# Altium footprint library SnapEDApcb.PcbLib: 1 footprints
Each footprint in its own frame and in the unit in brackets; x right, y up, seen from the top. Pads: shape width x height; smd on the part's side, far side on the other; paste and mask are expansions set on the pad; w line width, h text height; cw(c..) or ccw(c..) is an arc to the next point about the centre after c.
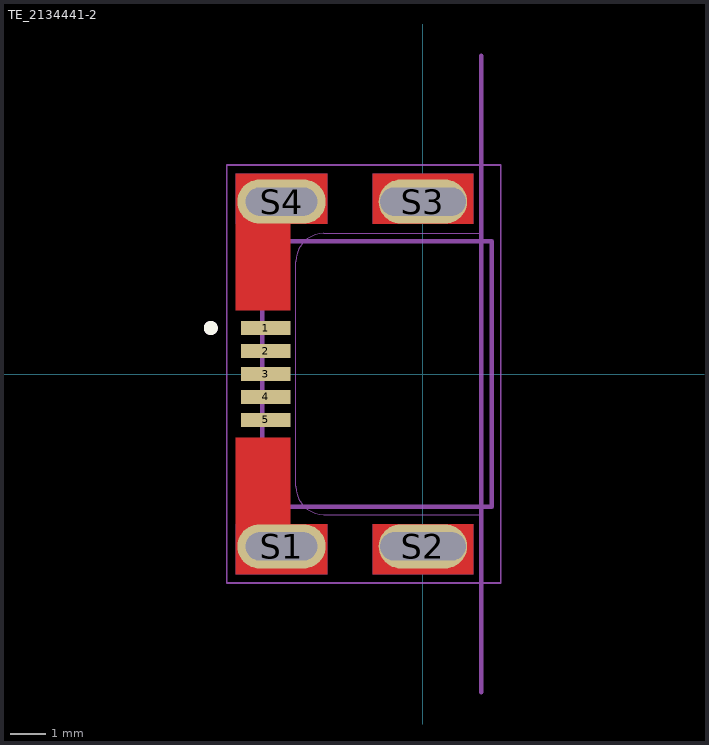
[diagram p0: the footprint, top view; thin cyan lines are the x and y axes]

## TE_2134441-2 [mm]
pads (9):
  rect 1.4x0.4 smd: 1(-4.45,1.3) 2(-4.45,0.65) 3(-4.45,0) 4(-4.45,-0.65) 5(-4.45,-1.3)
  oval 2.5x1.25 hole 0.8 slot 2.02 at 0 deg: S1(-4,-4.875) S4(-4,4.875)
  oval 2.5x1.25 hole 0.8 slot 2.42 at 0 deg: S2(0,-4.875) S3(0,4.875)
Top Layer:
  region: -2.7,4.25 -3.75,4.25 -3.75,1.8 -5.3,1.8 -5.3,5.66 -2.7,5.66
  region: 1.425,4.25 -1.425,4.25 -1.425,5.66 1.425,5.66
  region: 1.425,-5.66 -1.425,-5.66 -1.425,-4.25 1.425,-4.25
  region: -3.75,-4.25 -2.7,-4.25 -2.7,-5.66 -5.3,-5.66 -5.3,-1.8 -3.75,-1.8
Bottom Layer:
  region: -2.7,4.25 -5.3,4.25 -5.3,5.66 -2.7,5.66
  region: 1.425,4.25 -1.425,4.25 -1.425,5.66 1.425,5.66
  region: 1.425,-5.66 -1.425,-5.66 -1.425,-4.25 1.425,-4.25
  region: -2.7,-5.66 -5.3,-5.66 -5.3,-4.25 -2.7,-4.25
Top Overlay:
  circle w0.2: c-6,1.3 r0.1
Top Solder:
  region: -2.6,4.15 -3.65,4.15 -3.65,1.7 -5.4,1.7 -5.4,5.76 -2.6,5.76
  region: 1.525,4.15 -1.525,4.15 -1.525,5.76 1.525,5.76
  region: 1.525,-5.76 -1.525,-5.76 -1.525,-4.15 1.525,-4.15
  region: -3.65,-4.15 -2.6,-4.15 -2.6,-5.76 -5.4,-5.76 -5.4,-1.7 -3.65,-1.7
Bottom Solder:
  region: -2.6,4.15 -5.4,4.15 -5.4,5.76 -2.6,5.76
  region: 1.525,4.15 -1.525,4.15 -1.525,5.76 1.525,5.76
  region: 1.525,-5.76 -1.525,-5.76 -1.525,-4.15 1.525,-4.15
  region: -2.6,-5.76 -5.4,-5.76 -5.4,-4.15 -2.6,-4.15
Mechanical 1:
  lines w0: -5.01,-4.975 -5.01,-4.775 ; -5.01,4.775 -5.01,4.975 ; -2.99,-4.975 -2.99,-4.775 ; -2.99,4.775 -2.99,4.975 ; -1.21,-4.975 -1.21,-4.775 ; -1.21,4.775 -1.21,4.975 ; 1.21,-4.975 1.21,-4.775 ; 1.21,4.775 1.21,4.975 ; 1.65,-3.975 -2.8,-3.975 cw(c-2.8,-3.175) -3.6,-3.175 -3.6,3.175 cw(c-2.8,3.175) -2.8,3.975 1.65,3.975
Mechanical 13:
  circle w0.2: c-6,1.3 r0.1
  lines w0.127: 1.65,-9 1.65,9 ; -4.55,-3.75 -4.55,3.75 1.95,3.75 1.95,-3.75 -4.55,-3.75
  text "PCB Edge" at 1.5,6 h0.5
Mechanical 15:
  lines w0.05: -5.55,-5.91 -5.55,5.91 2.2,5.91 2.2,-5.91 -5.55,-5.91
3D body "2134441-2--3DModel-STEP-56544.STEP": height 2.1, standoff -0.54, extent -4.82,-5.1 1.98,5.1